# EAGLE library part BQ25040 (library lib_stankus)
TI BQ25040 li-ion battery charger
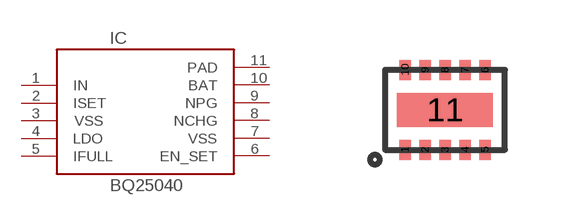
[diagram p27: symbol with the pads of WSON10; footprint WSON10]

Designator prefix IC

## BQ25040-WSON10  [WSON10]
1  IN  pas
2  ISET  pas
3  VSS  pas
4  LDO  pas
5  IFULL  pas
6  EN_SET  pas
7  VSS  pas
8  NCHG  pas
9  NPG  pas
10  BAT  pas
11  PAD  pas

## Footprint WSON10 (pad centres in mm)
WSON10
smd 0.28 x 0.5: 1 -1,-1; 2 -0.5,-1; 3 0,-1; 4 0.5,-1; 5 1,-1; 6 1,1; 7 0.5,1; 8 0,1; 9 -0.5,1; 10 -1,1
smd 2.4 x 0.85: 11 0,0